# Altium footprint library PCB - LEADLESS - QFN - TI UTQFN-10 1.4X1.8MM.PCBLIB: 1 footprints
Each footprint in its own frame and in the unit in brackets; x right, y up, seen from the top. Pads: shape width x height; smd on the part's side, far side on the other; paste and mask are expansions set on the pad; w line width, h text height; cw(c..) or ccw(c..) is an arc to the next point about the centre after c.
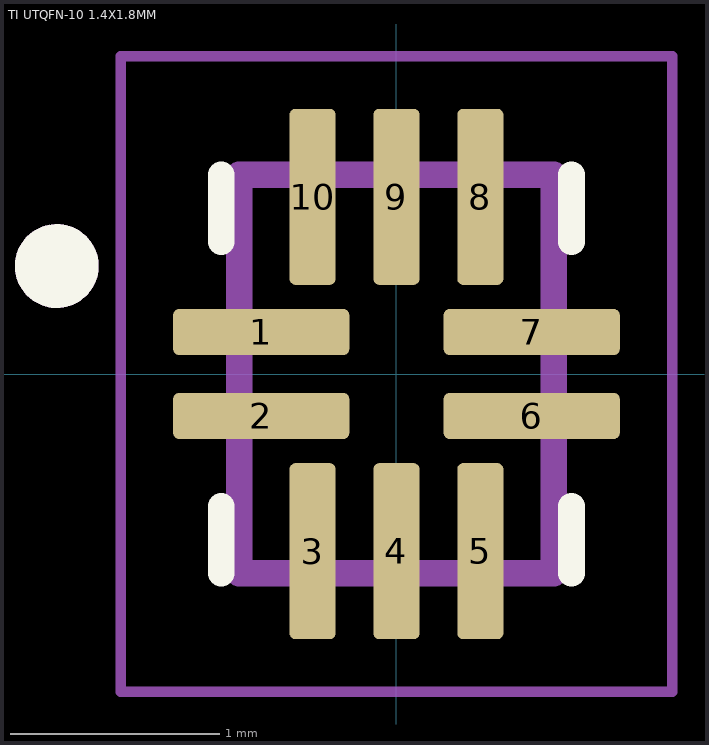
[diagram p0: the footprint, top view; thin cyan lines are the x and y axes]

## TI UTQFN-10 1.4X1.8MM [mm]
pads (10):
  rrect25% 0.84x0.22 smd: 1(-0.645,0.2) 2(-0.645,-0.2) 6(0.645,-0.2) 7(0.645,0.2)
  rrect25% 0.22x0.84 smd: 3(-0.4,-0.845) 4(0,-0.845) 5(0.4,-0.845) 8(0.4,0.845) 9(0,0.845) 10(-0.4,0.845)
Top Overlay:
  circle w0.2: c-1.62,0.515 r0.1
  lines w0.127: -0.835,-0.95 -0.835,-0.63 ; -0.835,0.63 -0.835,0.95 ; 0.835,-0.95 0.835,-0.63 ; 0.835,0.63 0.835,0.95
Mechanical 13:
  circle w0.2: c-1.62,0.515 r0.1
  lines w0.127: -0.75,-0.95 -0.75,0.95 0.75,0.95 0.75,-0.95 -0.75,-0.95
Mechanical 15:
  lines w0.05: -1.315,-1.515 -1.315,1.515 1.315,1.515 1.315,-1.515 -1.315,-1.515